# Altium footprint library HMT-2.54-1_5PM.PcbLib: 1 footprints
Each footprint in its own frame and in the unit in brackets; x right, y up, seen from the top. Pads: shape width x height; smd on the part's side, far side on the other; paste and mask are expansions set on the pad; w line width, h text height; cw(c..) or ccw(c..) is an arc to the next point about the centre after c.
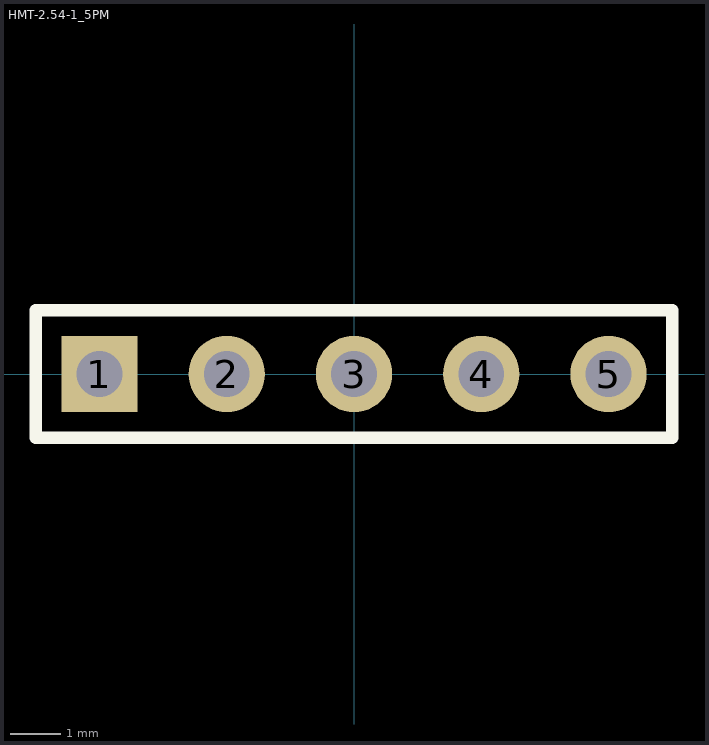
[diagram p0: the footprint, top view; thin cyan lines are the x and y axes]

## HMT-2.54-1_5PM [mil] "Female Headers. -40C~+105C 1 1x5P 2.54mm 2.54mm 3.2mm 3A 5P 8.5mm Brass Gold Square Hole Through Hole Top ,P=2.54mm Female Headers ROHS"
pads (5):
  rect 60x60 hole 36: 1(-200,0)
  round 60 hole 36: 2(-100,0) 3(0,0) 4(100,0) 5(200,0)
Top Overlay:
  lines w10: -250,-50 -250,50 250,50 250,-50 -250,-50
Mechanical 13:
  lines w3.94: -250,-49.21 250,-49.21 250,49.21 -250,49.21 -250,-49.21
3D body "ZX-PM2.54-1-5PY.step": height 334.65, standoff -125.98, extent -257.87,-49.21 258.27,49.21